# Altium footprint library TrimmerResistors.PcbLib: 4 footprints
Each footprint in its own frame and in the unit in brackets; x right, y up, seen from the top. Pads: shape width x height; smd on the part's side, far side on the other; paste and mask are expansions set on the pad; w line width, h text height; cw(c..) or ccw(c..) is an arc to the next point about the centre after c.
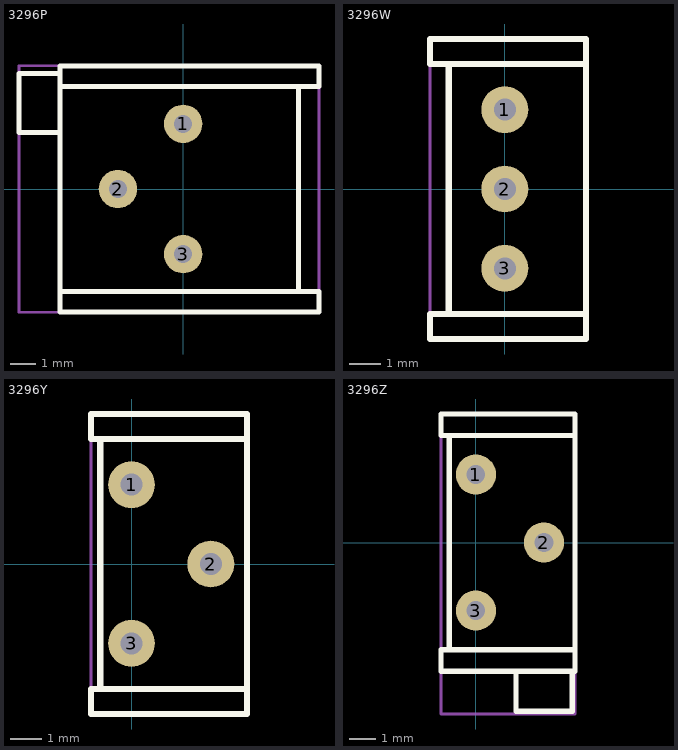
[diagram p0: the footprints below, top view; thin cyan lines are the x and y axes]

## 3296P [mm]
pads (3):
  round 1.5 hole 0.7: 1(0,2.54) 2(-2.54,0) 3(0,-2.54)
Top Overlay:
  lines w0.2: -4.8,-4 5.3,-4 5.3,-4.8 -4.8,-4.8 -4.8,4.8 5.3,4.8 5.3,4 -4.8,4 ; -4.8,2.2 -6.4,2.2 -6.4,4.5 -4.8,4.5 ; 4.5,-4 4.5,4
Border:
  lines w0.1: -6.4,-4.8 5.3,-4.8 5.3,4.8 -6.4,4.8 -6.4,-4.8
3D body "User Library-Trimming Potentiometer Horizontal 3296P 101 - 100 Ohms.STEP": height 4.91, standoff -8.15, extent -6.38,-4.715 5.25,4.815

## 3296W [mm]
pads (3):
  round 1.5 hole 0.7: 1(0,2.54) 2(0,0) 3(0,-2.54)
Top Overlay:
  lines w0.2: 2.6,-4 -1.8,-4 ; 2.6,4 -1.8,4 ; -1.8,-4 -2.4,-4 -2.4,-4.8 2.6,-4.8 2.6,4.8 -2.4,4.8 -2.4,4 -1.8,4 ; -1.8,-4 -1.8,4
Border:
  lines w0.1: -2.4,-4.8 -2.4,4.8 2.6,4.8 2.6,-4.8 -2.4,-4.8
3D body "User Library-Trimming Potentiometer Vertical 3296W 203 - 20k.STEP": height 11.63, standoff -6.4, extent -2.415,-4.765 2.415,4.765

## 3296Y [mm]
pads (3):
  round 1.5 hole 0.7: 1(0,2.54) 2(2.54,0) 3(0,-2.54)
Top Overlay:
  lines w0.2: -1,-4 -1,4 ; 3.7,-4 -0.7,-4 -1.3,-4 -1.3,-4.8 3.7,-4.8 3.7,4.8 -1.3,4.8 -1.3,4 -0.7,4 3.7,4
Border:
  lines w0.1: -1.3,-4.8 3.7,-4.8 3.7,4.8 -1.3,4.8 -1.3,-4.8
3D body "User Library-Trimming Potentiometer Vertical 3296Y 201 - 200 Ohms.STEP": height 11.73, standoff -6.3, extent -1.115,-4.765 3.715,4.765

## 3296Z [mm]
pads (3):
  round 1.5 hole 0.7: 1(0,2.54) 2(2.54,0) 3(0,-2.54)
Top Overlay:
  lines w0.2: -1,-4 -1,4 ; 1.5,-4.8 1.5,-6.3 3.6,-6.3 3.6,-4.8 -1.3,-4.8 -1.3,-4 -0.7,-4 3.7,-4 ; 3.7,-4.8 3.7,4.8 -1.3,4.8 -1.3,4 -0.7,4 3.7,4
Border:
  lines w0.1: -1.3,-6.4 3.7,-6.4 3.7,4.8 -1.3,4.8 -1.3,-6.4
3D body "User Library-Trimming Potentiometer Vertical 3296Z 500 - 50 Ohms.STEP": height 10.03, standoff -6.4, extent -1.115,-6.365 3.715,4.765